# Altium schematic symbol library XATL.Schlib: 1 symbol
Pins are listed as number, name and electrical type; pins without a type are passive.

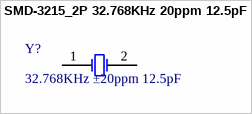
[diagram p0: symbol SMD-3215_2P 32.768KHz 20ppm 12.5pF]

## SMD-3215_2P 32.768KHz 20ppm 12.5pF
designator Y?, comment 32.768KHz ±20ppm 12.5pF
贴片晶振
footprint SMD-3215_2P FC - 135
pins: 1 OSC1, 2 OSC2